# EAGLE library part PCM5102A (library DMF-TI_DIR9001)
PCM5102A
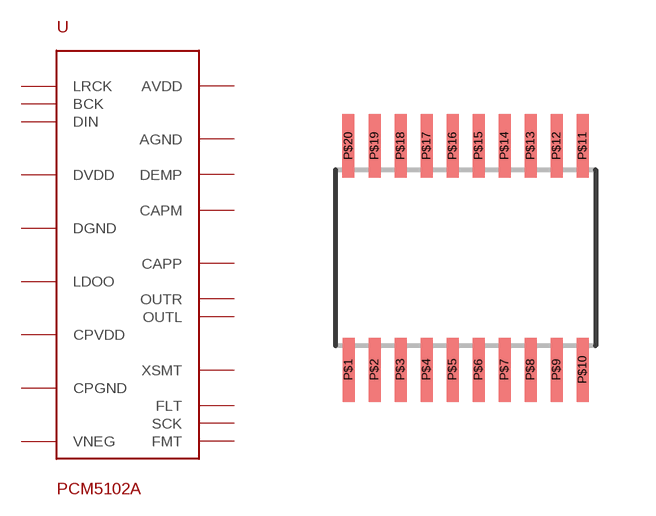
[diagram p1: symbol with the pads of PCM5102A; footprint PCM5102A]

Designator prefix U

## PCM5102A  [PCM5102A]
P$1  CPVDD
P$2  CAPP
P$3  CPGND
P$4  CAPM
P$5  VNEG
P$6  OUTL
P$7  OUTR
P$8  AVDD
P$9  AGND
P$10  DEMP
P$11  FLT
P$12  SCK
P$13  BCK
P$14  DIN
P$15  LRCK
P$16  FMT
P$17  XSMT
P$18  LDOO
P$19  DGND
P$20  DVDD

## Footprint PCM5102A (pad centres in mm)
smd 0.3 x 1.6: P$1 -2.925,-2.8; P$2 -2.275,-2.8; P$3 -1.625,-2.8; P$4 -0.975,-2.8; P$5 -0.325,-2.8; P$6 0.325,-2.8; P$7 0.975,-2.8; P$8 1.625,-2.8; P$9 2.275,-2.8; P$10 2.925,-2.8; P$11 2.925,2.8; P$12 2.275,2.8; P$13 1.625,2.8; P$14 0.975,2.8; P$15 0.325,2.8; P$16 -0.325,2.8; P$17 -0.975,2.8; P$18 -1.625,2.8; P$19 -2.275,2.8; P$20 -2.927,2.8